# EAGLE library part DRV8824 (library sjg-laser)
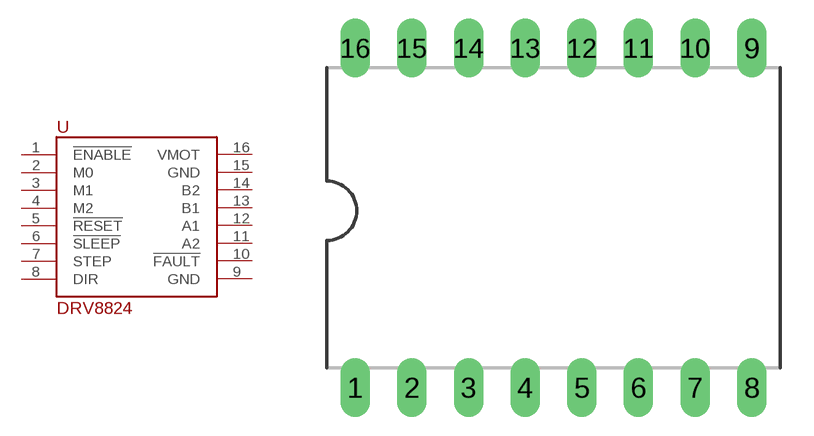
[diagram p0: symbol with the pads of DIL16; footprint DIL16]

Designator prefix -

## DRV8824  [DIL16]
1  !ENABLE!  in
2  M0  in
3  M1  in
4  M2  in
5  !RESET!
6  !SLEEP!
7  STEP  in
8  DIR  in
9  GND  pwr
10  !FAULT!
11  A2  out
12  A1  out
13  B1  out
14  B2  out
15  GND  pwr
16  VMOT  pwr

## Footprint DIL16 (pad centres in mm)
Dual In Line Package
drill 0.813 long: 1 -8.89,-7.62; 2 -6.35,-7.62; 3 -3.81,-7.62; 4 -1.27,-7.62; 5 1.27,-7.62; 6 3.81,-7.62; 7 6.35,-7.62; 8 8.89,-7.62; 9 8.89,7.62; 10 6.35,7.62; 11 3.81,7.62; 12 1.27,7.62; 13 -1.27,7.62; 14 -3.81,7.62; 15 -6.35,7.62; 16 -8.89,7.62